# EAGLE library part LFXP3E_XXT144 (library lattice)
lfxp3e_tqfp144 edit this description Auto generated by make-symbol-device-package-bsdl.ulp Rev. 20 Source: lfxp3e_tqfp144.bsm
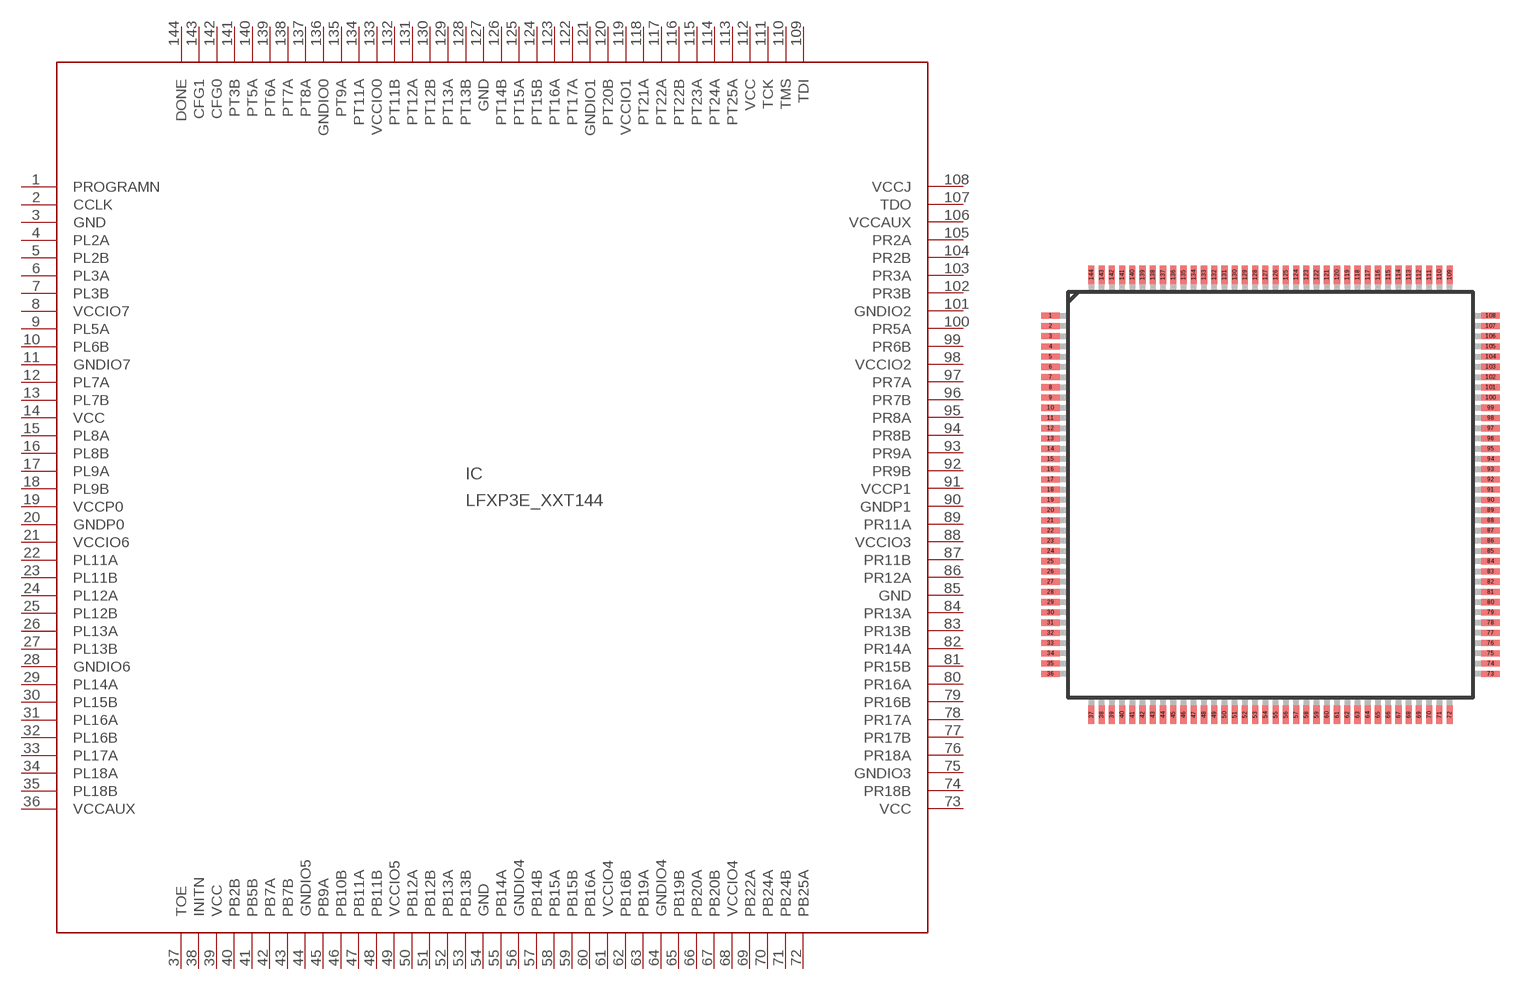
[diagram p33: symbol with the pads of TQFP144; footprint TQFP144]

Designator prefix IC

## LFXP3E_XXT144 (OC_FARNELL: unknown; OC_NEWARK: unknown)  [TQFP144]
1  PROGRAMN  in
2  CCLK
3  GND  pwr
4  PL2A
5  PL2B
6  PL3A
7  PL3B
8  VCCIO7  pwr
9  PL5A
10  PL6B
11  GNDIO7  pwr
12  PL7A
13  PL7B
14  VCC  pwr
15  PL8A
16  PL8B
17  PL9A
18  PL9B
19  VCCP0  pwr
20  GNDP0  pwr
21  VCCIO6  pwr
22  PL11A
23  PL11B
24  PL12A
25  PL12B
26  PL13A
27  PL13B
28  GNDIO6  pwr
29  PL14A
30  PL15B
31  PL16A
32  PL16B
33  PL17A
34  PL18A
35  PL18B
36  VCCAUX  pwr
37  TOE  in
38  INITN
39  VCC  pwr
40  PB2B
41  PB5B
42  PB7A
43  PB7B
44  GNDIO5  pwr
45  PB9A
46  PB10B
47  PB11A
48  PB11B
49  VCCIO5  pwr
50  PB12A
51  PB12B
52  PB13A
53  PB13B
54  GND  pwr
55  PB14A
56  GNDIO4  pwr
57  PB14B
58  PB15A
59  PB15B
60  PB16A
61  VCCIO4  pwr
62  PB16B
63  PB19A
64  GNDIO4  pwr
65  PB19B
66  PB20A
67  PB20B
68  VCCIO4  pwr
69  PB22A
70  PB24A
71  PB24B
72  PB25A
73  VCC  pwr
74  PR18B
75  GNDIO3  pwr
76  PR18A
77  PR17B
78  PR17A
79  PR16B
80  PR16A
81  PR15B
82  PR14A
83  PR13B
84  PR13A
85  GND  pwr
86  PR12A
87  PR11B
88  VCCIO3  pwr
89  PR11A
90  GNDP1  pwr
91  VCCP1  pwr
92  PR9B
93  PR9A
94  PR8B
95  PR8A
96  PR7B
97  PR7A
98  VCCIO2  pwr
99  PR6B
100  PR5A
101  GNDIO2  pwr
102  PR3B
103  PR3A
104  PR2B
105  PR2A
106  VCCAUX  pwr
107  TDO  out
108  VCCJ  pwr
109  TDI  in
110  TMS  in
111  TCK  in
112  VCC  pwr
113  PT25A
114  PT24A
115  PT23A
116  PT22B
117  PT22A
118  PT21A
119  VCCIO1  pwr
120  PT20B
121  GNDIO1  pwr
122  PT17A
123  PT16A
124  PT15B
125  PT15A
126  PT14B
127  GND  pwr
128  PT13B
129  PT13A
130  PT12B
131  PT12A
132  PT11B
133  VCCIO0  pwr
134  PT11A
135  PT9A
136  GNDIO0  pwr
137  PT8A
138  PT7A
139  PT6A
140  PT5A
141  PT3B
142  CFG0  in
143  CFG1  in
144  DONE

## Footprint TQFP144 (pad centres in mm)
TQFP 144 Auto generated by make-symbol-device-package-bsdl.ulp Rev. 20 Source: http://www.latticesemi.com/lit/docs/package/pkg.pdf
smd 0.9 x 0.3: 1 -10.75,8.75; 2 -10.75,8.25; 3 -10.75,7.75; 4 -10.75,7.25; 5 -10.75,6.75; 6 -10.75,6.25; 7 -10.75,5.75; 8 -10.75,5.25; 9 -10.75,4.75; 10 -10.75,4.25; 11 -10.75,3.75; 12 -10.75,3.25; 13 -10.75,2.75; 14 -10.75,2.25; 15 -10.75,1.75; 16 -10.75,1.25; 17 -10.75,0.75; 18 -10.75,0.25; 19 -10.75,-0.25; 20 -10.75,-0.75; 21 -10.75,-1.25; 22 -10.75,-1.75; 23 -10.75,-2.25; 24 -10.75,-2.75; 25 -10.75,-3.25; 26 -10.75,-3.75; 27 -10.75,-4.25; 28 -10.75,-4.75; 29 -10.75,-5.25; 30 -10.75,-5.75; 31 -10.75,-6.25; 32 -10.75,-6.75; 33 -10.75,-7.25; 34 -10.75,-7.75; 35 -10.75,-8.25; 36 -10.75,-8.75; 73 10.75,-8.75; 74 10.75,-8.25; 75 10.75,-7.75; 76 10.75,-7.25; 77 10.75,-6.75; 78 10.75,-6.25; 79 10.75,-5.75; 80 10.75,-5.25; 81 10.75,-4.75; 82 10.75,-4.25; 83 10.75,-3.75; 84 10.75,-3.25; 85 10.75,-2.75; 86 10.75,-2.25; 87 10.75,-1.75; 88 10.75,-1.25; 89 10.75,-0.75; 90 10.75,-0.25; 91 10.75,0.25; 92 10.75,0.75; 93 10.75,1.25; 94 10.75,1.75; 95 10.75,2.25; 96 10.75,2.75; 97 10.75,3.25; 98 10.75,3.75; 99 10.75,4.25; 100 10.75,4.75; 101 10.75,5.25; 102 10.75,5.75; 103 10.75,6.25; 104 10.75,6.75; 105 10.75,7.25; 106 10.75,7.75; 107 10.75,8.25; 108 10.75,8.75
smd 0.3 x 0.9: 37 -8.75,-10.75; 38 -8.25,-10.75; 39 -7.75,-10.75; 40 -7.25,-10.75; 41 -6.75,-10.75; 42 -6.25,-10.75; 43 -5.75,-10.75; 44 -5.25,-10.75; 45 -4.75,-10.75; 46 -4.25,-10.75; 47 -3.75,-10.75; 48 -3.25,-10.75; 49 -2.75,-10.75; 50 -2.25,-10.75; 51 -1.75,-10.75; 52 -1.25,-10.75; 53 -0.75,-10.75; 54 -0.25,-10.75; 55 0.25,-10.75; 56 0.75,-10.75; 57 1.25,-10.75; 58 1.75,-10.75; 59 2.25,-10.75; 60 2.75,-10.75; 61 3.25,-10.75; 62 3.75,-10.75; 63 4.25,-10.75; 64 4.75,-10.75; 65 5.25,-10.75; 66 5.75,-10.75; 67 6.25,-10.75; 68 6.75,-10.75; 69 7.25,-10.75; 70 7.75,-10.75; 71 8.25,-10.75; 72 8.75,-10.75; 109 8.75,10.75; 110 8.25,10.75; 111 7.75,10.75; 112 7.25,10.75; 113 6.75,10.75; 114 6.25,10.75; 115 5.75,10.75; 116 5.25,10.75; 117 4.75,10.75; 118 4.25,10.75; 119 3.75,10.75; 120 3.25,10.75; 121 2.75,10.75; 122 2.25,10.75; 123 1.75,10.75; 124 1.25,10.75; 125 0.75,10.75; 126 0.25,10.75; 127 -0.25,10.75; 128 -0.75,10.75; 129 -1.25,10.75; 130 -1.75,10.75; 131 -2.25,10.75; 132 -2.75,10.75; 133 -3.25,10.75; 134 -3.75,10.75; 135 -4.25,10.75; 136 -4.75,10.75; 137 -5.25,10.75; 138 -5.75,10.75; 139 -6.25,10.75; 140 -6.75,10.75; 141 -7.25,10.75; 142 -7.75,10.75; 143 -8.25,10.75; 144 -8.75,10.75